# Altium schematic symbol library FCCPeripherals.SchLib: 9 symbols
Pins are listed as number, name and electrical type; pins without a type are passive.

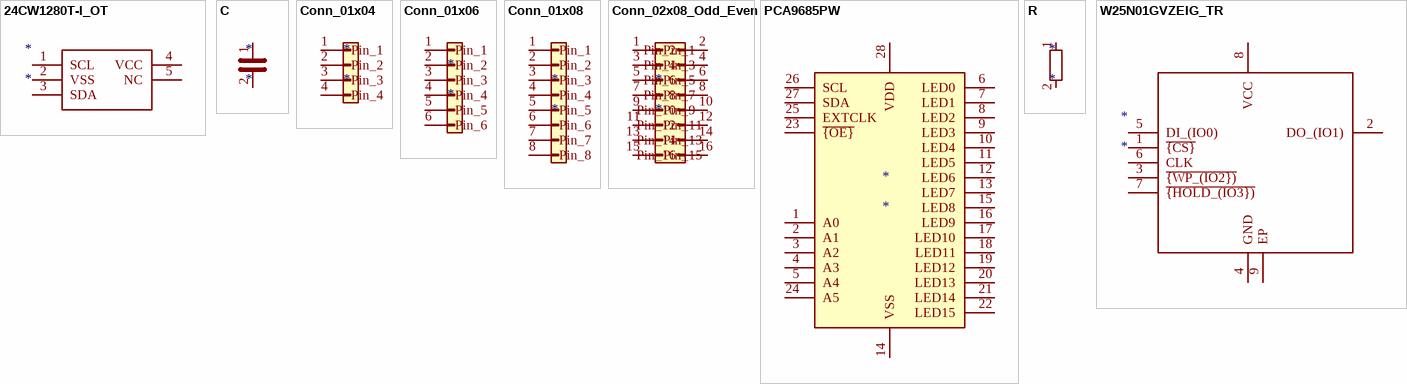
[diagram p0: symbols 24CW1280T-I_OT to W25N01GVZEIG_TR]

## 24CW1280T-I_OT
designator *
pins: 1 SCL, 2 VSS, 3 SDA, 4 VCC, 5 NC

## C
designator *
pins: 1, 2

## Conn_01x04
designator *
pins: 1 Pin_1, 2 Pin_2, 3 Pin_3, 4 Pin_4

## Conn_01x06
designator *
pins: 1 Pin_1, 2 Pin_2, 3 Pin_3, 4 Pin_4, 5 Pin_5, 6 Pin_6

## Conn_01x08
designator *
pins: 1 Pin_1, 2 Pin_2, 3 Pin_3, 4 Pin_4, 5 Pin_5, 6 Pin_6, 7 Pin_7, 8 Pin_8

## Conn_02x08_Odd_Even
designator *
pins: 1 Pin_1, 2 Pin_2, 3 Pin_3, 4 Pin_4, 5 Pin_5, 6 Pin_6, 7 Pin_7, 8 Pin_8, 9 Pin_9, 10 Pin_10, 11 Pin_11, 12 Pin_12, 13 Pin_13, 14 Pin_14, 15 Pin_15, 16 Pin_16

## PCA9685PW
designator *
pins: 1 A0, 2 A1, 3 A2, 4 A3, 5 A4, 6 LED0, 7 LED1, 8 LED2, 9 LED3, 10 LED4, 11 LED5, 12 LED6, 13 LED7, 14 VSS, 15 LED8, 16 LED9, 17 LED10, 18 LED11, 19 LED12, 20 LED13, 21 LED14, 22 LED15, 23 ~{{OE}}, 24 A5, 25 EXTCLK, 26 SCL, 27 SDA, 28 VDD

## R
designator *
pins: 1, 2

## W25N01GVZEIG_TR
designator *
pins: 1 ~{{CS}}, 2 DO_(IO1), 3 ~{{WP_(IO2})}, 4 GND, 5 DI_(IO0), 6 CLK, 7 ~{{HOLD_(IO3})}, 8 VCC, 9 EP